# EAGLE library part FT-X3 (library Echelon)
FT-X3 Transformer
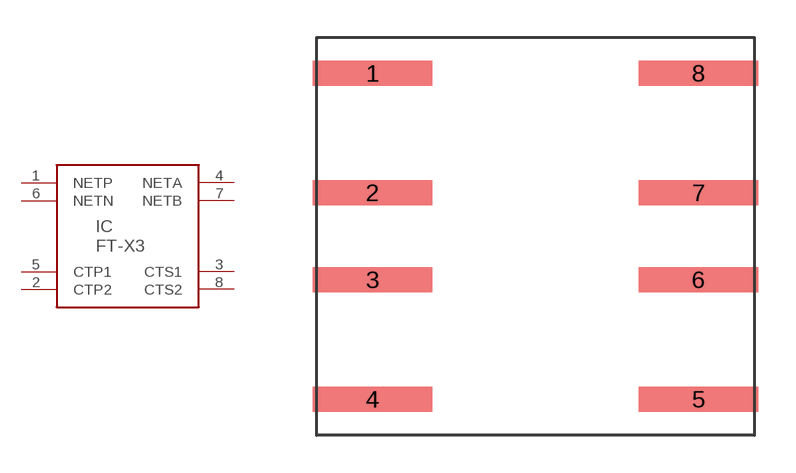
[diagram p1: symbol with the pads of FT-X3; footprint FT-X3]

Designator prefix IC

## FT-X3  [FT-X3]
1  NETP
2  CTP2
3  CTS1
4  NETA
5  CTP1
6  NETN
7  NETB
8  CTS2

## Footprint FT-X3 (pad centres in mm)
smd 4.8 x 1: 1 -6.55,6.55; 2 -6.55,1.75; 3 -6.55,-1.75; 4 -6.55,-6.55; 5 6.55,-6.55; 6 6.55,-1.75; 7 6.55,1.75; 8 6.55,6.55